# EAGLE library part 7508113417 (library Wurth Electronics Midcom Inc - EAGLE Lib V2-1)
Package Style: ER28/17 Mounting: THT Pins: 12 pins Bobbin: 070-5652 Best pinouts for production vary per application. Please contact Wurth Electronics Midcom, Inc. for assistance with your custom design. Website: Wurth Electronics Midcom <http://www.we-online.com/midcom> Contact us Wurth Electronics Midcom, Inc. 121 Airport Dr. Watertown, SD 57201 Phone: (605) 886-4385 Fax: (605) 886-4486 E-Mail: midcom@we-online.com
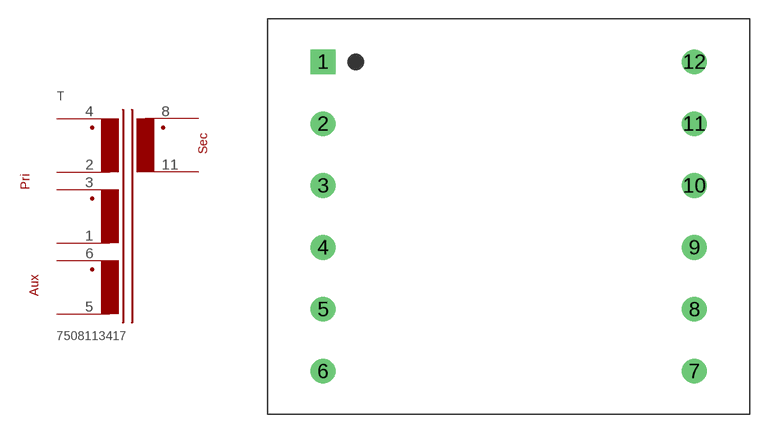
[diagram p107: symbol with the pads of ER28/17_THT_H_12PIN_(5652); footprint ER28/17_THT_H_12PIN_(5652)]

Designator prefix T

## 7508113417  [ER28/17_THT_H_12PIN_(5652)]
1  1  pas
2  2  pas
3  3  pas
4  4  pas
5  5  pas
6  6  pas
8  8  pas
11  11  pas

## Footprint ER28/17_THT_H_12PIN_(5652) (pad centres in mm)
Package Style: ER28/17 Mounting: THT Pins: 12 Bobbin: 070-5652
drill 1.321 square: 1 -14.999,12.509
drill 1.321: 2 -14.999,7.506; 3 -14.999,2.502; 4 -14.999,-2.502; 5 -14.999,-7.506; 6 -14.999,-12.509; 7 14.999,-12.509; 8 14.999,-7.506; 9 14.999,-2.502; 10 14.999,2.502; 11 14.999,7.506; 12 14.999,12.509